# EAGLE library part LM386M-1_NOPB (library LM386M-1_NOPB)
Wide Input Voltage Low Power Audio Amplifier with Internal Gain Source: Datasheet <https://datasheet.datasheetarchive.com/originals/distributors/Datasheets-SFU2/DSASFU100035547.pdf>
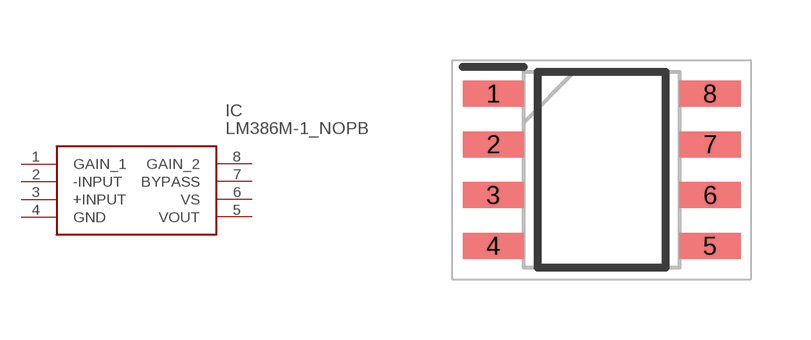
[diagram p0: symbol with the pads of SOIC127P600X175-8N; footprint SOIC127P600X175-8N]

Designator prefix IC

## LM386M-1_NOPB (Arrow_Part_Number: LM386M-1/NOPB; Arrow_Price-Stock: https://www.arrow.com/en/products/lm386m-1nopb/texas-instruments?region=nac; Description: Wide Input Voltage Low Power Audio Amplifier with Internal Gain; Height: 1.75mm; Manufacturer_Name: Texas Instruments; Manufacturer_Part_Number: LM386M-1/NOPB; Mouser_Part_Number: 926-LM386M-1/NOPB; Mouser_Price-Stock: https://www.mouser.co.uk/ProductDetail/Texas-Instruments/LM386M-1-NOPB?qs=QbsRYf82W3GaJvrwUmrW3g%3D%3D)  [SOIC127P600X175-8N]
1  GAIN_1
2  -INPUT
3  +INPUT
4  GND
5  VOUT
6  VS
7  BYPASS
8  GAIN_2

## Footprint SOIC127P600X175-8N (pad centres in mm)
+soic d
smd 1.528 x 0.65: 1 -2.711,1.905; 2 -2.711,0.635; 3 -2.711,-0.635; 4 -2.711,-1.905; 5 2.711,-1.905; 6 2.711,-0.635; 7 2.711,0.635; 8 2.711,1.905